# Altium schematic symbol library connector.SchLib: 97 symbols (part 2 of 2)
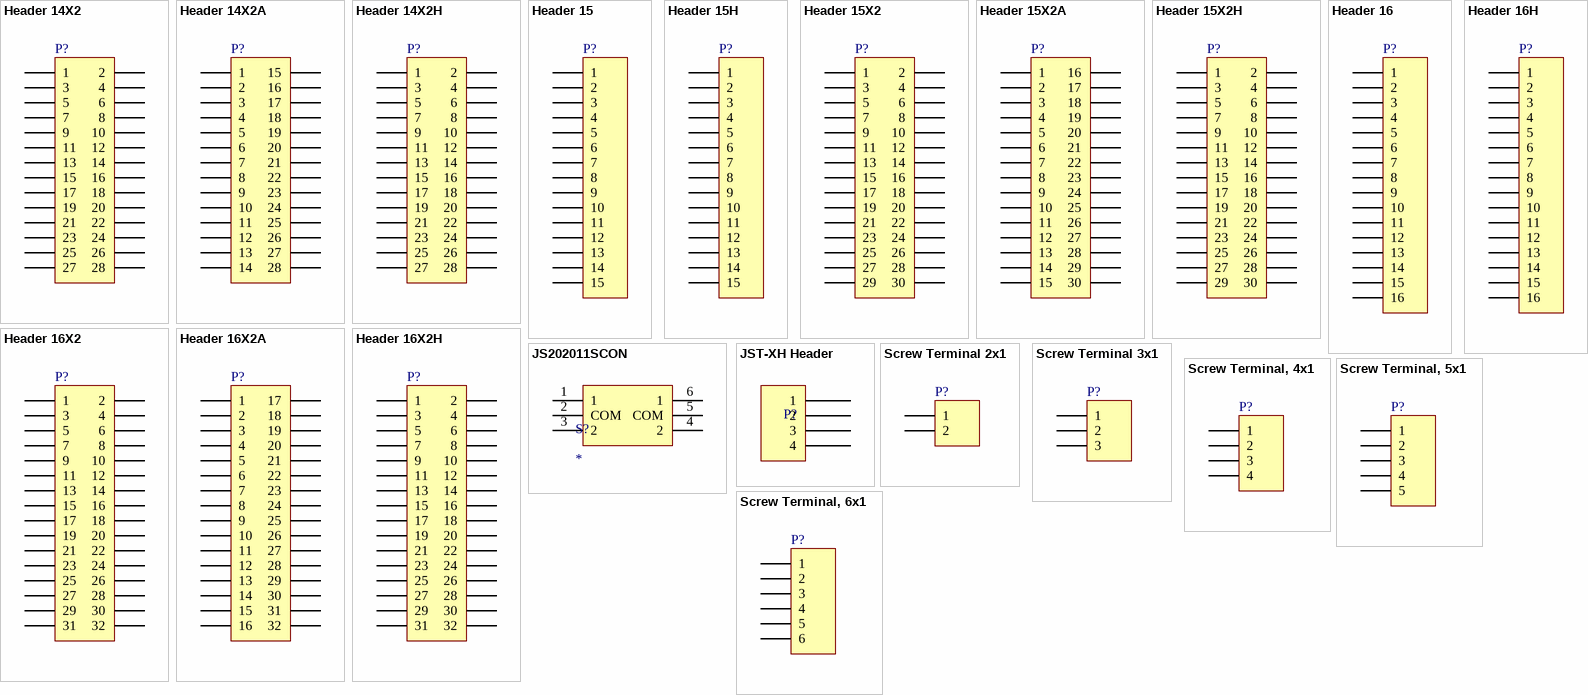
[diagram p3: symbols Header 14X2 to Screw Terminal, 6x1]

## Header 16
designator P?
Header, 16-Pin; LatestRevisionDate: 17-Jul-2002; LatestRevisionNote: Re-released for DXP Platform.; Publisher: Altium Limited
signal-integrity model Connector
footprint Pin Header 1x16 TH Pitch 2.54mm (PinHeader 1x16 TH Pitch 2.54mm)
pins: 1, 2, 3, 4, 5, 6, 7, 8, 9, 10, 11, 12, 13, 14, 15, 16

## Header 16H
designator P?
Header, 16-Pin, Right Angle; LatestRevisionDate: 17-Jul-2002; LatestRevisionNote: Re-released for DXP Platform.; Publisher: Altium Limited
signal-integrity model Connector
pins: 1, 2, 3, 4, 5, 6, 7, 8, 9, 10, 11, 12, 13, 14, 15, 16

## Header 16X2
designator P?
Header, 16-Pin, Dual row; LatestRevisionDate: 17-Jul-2002; LatestRevisionNote: Re-released for DXP Platform.; Publisher: Altium Limited
signal-integrity model Connector
pins: 1, 2, 3, 4, 5, 6, 7, 8, 9, 10, 11, 12, 13, 14, 15, 16, 17, 18, 19, 20, 21, 22, 23, 24, 25, 26, 27, 28, 29, 30, 31, 32

## Header 16X2A
designator P?
Header, 16-Pin, Dual row; LatestRevisionDate: 17-Jul-2002; LatestRevisionNote: Re-released for DXP Platform.; Publisher: Altium Limited
signal-integrity model Connector
pins: 1, 2, 3, 4, 5, 6, 7, 8, 9, 10, 11, 12, 13, 14, 15, 16, 17, 18, 19, 20, 21, 22, 23, 24, 25, 26, 27, 28, 29, 30, 31, 32

## Header 16X2H
designator P?
Header, 16-Pin, Dual row, Right Angle; LatestRevisionDate: 17-Jul-2002; LatestRevisionNote: Re-released for DXP Platform.; Publisher: Altium Limited
signal-integrity model Connector
pins: 1, 2, 3, 4, 5, 6, 7, 8, 9, 10, 11, 12, 13, 14, 15, 16, 17, 18, 19, 20, 21, 22, 23, 24, 25, 26, 27, 28, 29, 30, 31, 32

## JS202011SCON
designator S?
DPST Switch; Manufacturer: C&K; Manufacturer P/N: JS202011SCQN; ComponentLink1Description: Digikey; ComponentLink1URL: https://www.digikey.com/product-detail/en/c-k/JS202011SCQN/401-2002-1-ND/1640098; Digikey P/N: 401-2002-1-ND; Digikey Link: https://www.digikey.com/product-detail/en/c-k/JS202011SCQN/401-2002-1-ND/1640098
footprint JS202011SCON
pins: 1, 2 COM, 3 2, 4 2, 5 COM, 6 1

## JST-XH Header
designator P?
JST-XH CONN HEADER VERT 4POS 2.5MM; Manufacturer: JST Sales America; Manufacturer P/N: B4B-XH-A(LF)(SN); Digikey Link: https://www.digikey.com/product-detail/en/jst-sales-america-inc/B4B-XH-A-LF-SN/455-2249-ND/1651047; Digikey P/N: 455-2249-ND
footprint JST - XH 4 Pos
pins: 1, 2, 3, 4

## Screw Terminal 2x1
designator P?
Screw Terminal, 2-Pin
signal-integrity model Connector
footprint 2POS TERM BLOCK (5mm Pitch)
pins: 1, 2

## Screw Terminal 3x1
designator P?
Screw Terminal, 3-Pin; LatestRevisionDate: 17-Jul-2002; LatestRevisionNote: Re-released for DXP Platform.; Publisher: Altium Limited
signal-integrity model Connector
footprint 3POS TERM BLOCK (5mm Pitch)
pins: 1, 2, 3

## Screw Terminal, 4x1
designator P?
Screw Terminal, 4-Pin; LatestRevisionDate: 17-Jul-2002; LatestRevisionNote: Re-released for DXP Platform.; Publisher: Altium Limited
signal-integrity model Connector
footprint 4POS TERM BLOCK
pins: 1, 2, 3, 4

## Screw Terminal, 5x1
designator P?
Screw Terminal, 5-Pin; LatestRevisionDate: 17-Jul-2002; LatestRevisionNote: Re-released for DXP Platform.; Publisher: Altium Limited
signal-integrity model Connector
footprint 5POS TERM BLOCK
pins: 1, 2, 3, 4, 5

## Screw Terminal, 6x1
designator P?
Screw Terminal, 6-Pin; LatestRevisionDate: 17-Jul-2002; LatestRevisionNote: Re-released for DXP Platform.; Publisher: Altium Limited
signal-integrity model Connector
footprint 6POS TERM BLOCK (5mm)
pins: 1, 2, 3, 4, 5, 6